# Altium footprint library MB525.PcbLib: 47 footprints (part 1 of 3)
Each footprint in its own frame and in the unit in brackets; x right, y up, seen from the top. Pads: shape width x height; smd on the part's side, far side on the other; paste and mask are expansions set on the pad; w line width, h text height; cw(c..) or ccw(c..) is an arc to the next point about the centre after c.
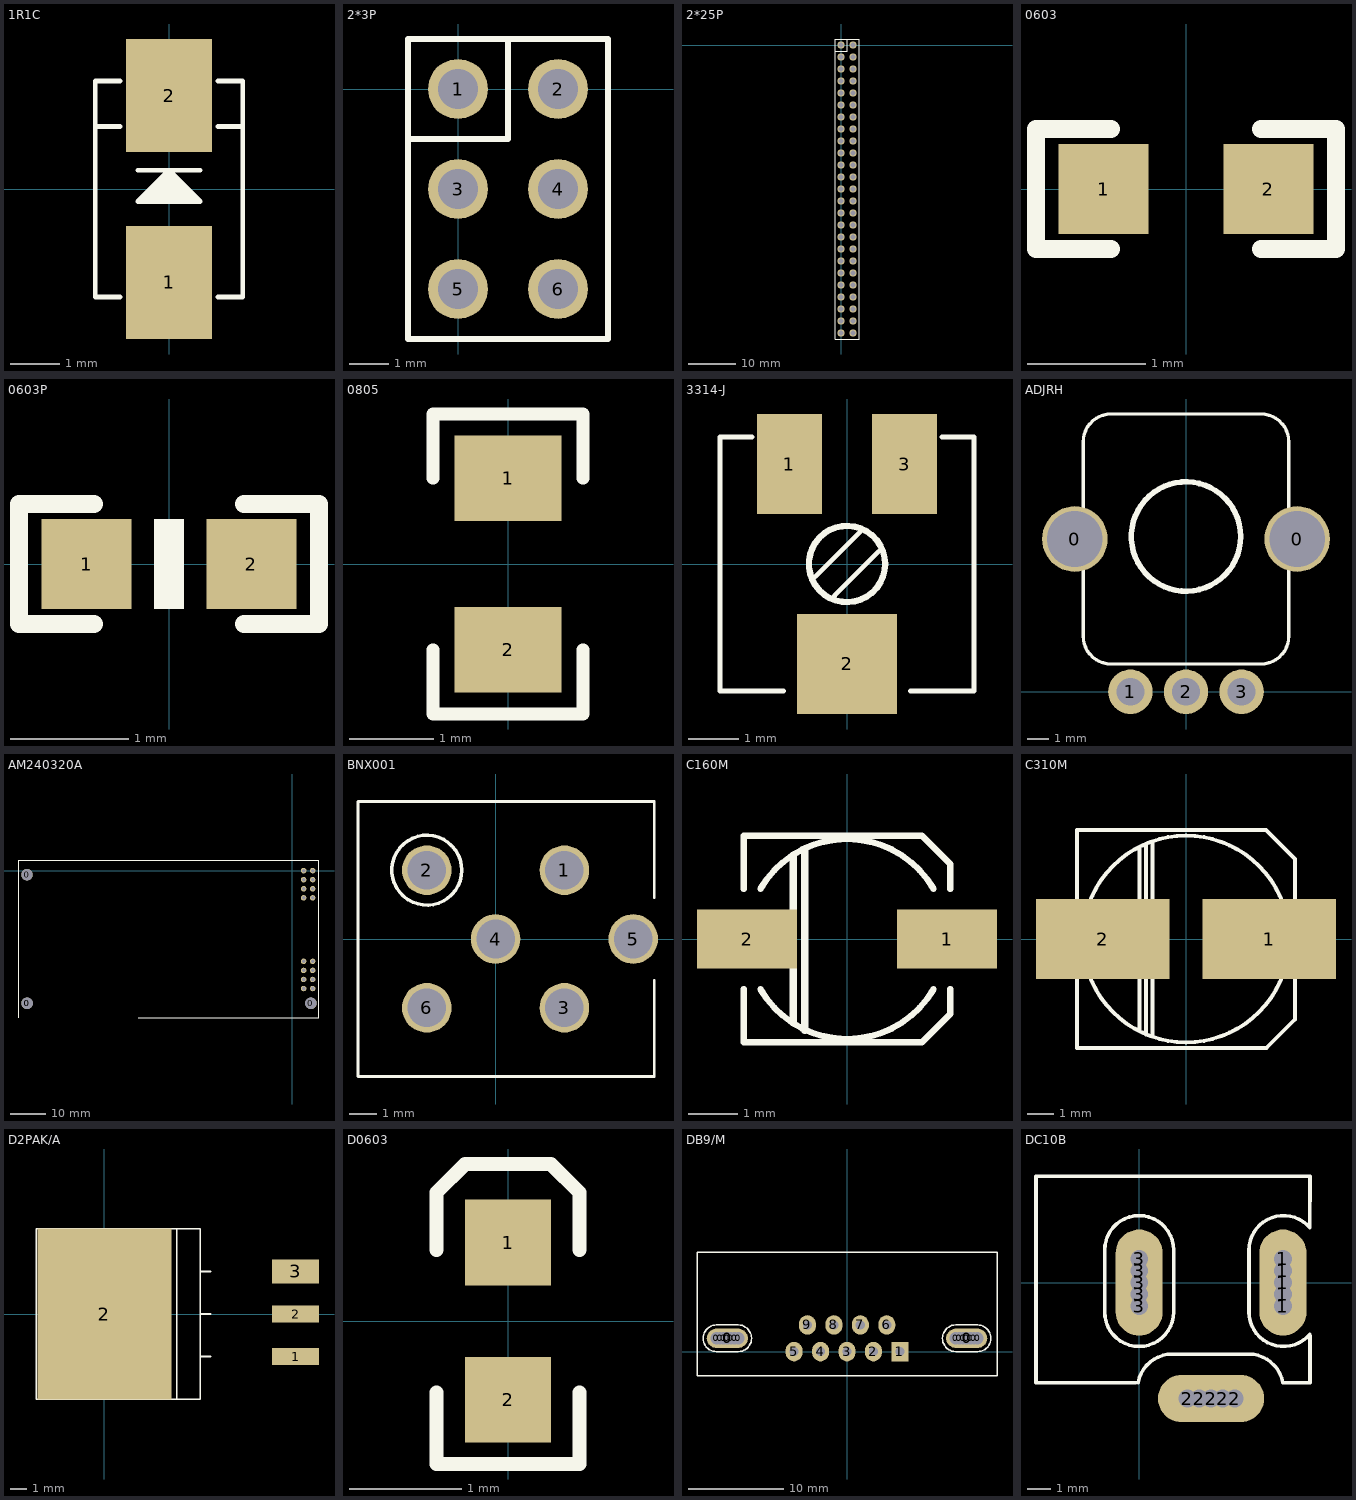
[diagram p0: the footprints below, top view; thin cyan lines are the x and y axes]

## 1R1C [mm]
pads (2):
  rect 1.75x2.3 smd: 1(0,-1.9) 2(0,1.9)
Top Overlay:
  lines w0.1: -1.5,1.27 -1,1.27 ; -1,-2.2 -1.5,-2.2 -1.5,2.2 -1,2.2 ; -0.635,0.381 0.635,0.381 ; -0.564,-0.183 0.477,-0.183 0.477,-0.096 -0.477,-0.096 ; -0.43,-0.049 0.43,-0.049 ; -0.37,0.011 0.37,0.011 ; -0.294,0.087 0.294,0.087 ; -0.213,0.168 0.213,0.168 ; -0.188,0.193 0.188,0.193 ; -0.025,0.087 -0.025,0.381 ; 0.051,-0.071 0.051,0.381 ; 1,-2.2 1.5,-2.2 1.5,2.2 1,2.2 ; 1,1.27 1.5,1.27 ; -0.635,-0.254 0.635,-0.254 0,0.381 -0.635,-0.254

## 2*3P [mil]
pads (6):
  round 60 hole 40: 1(0,0) 2(100,0) 3(0,-100) 4(100,-100) 5(0,-200) 6(100,-200)
Top Overlay:
  lines w6: -50,-50 50,-50 50,50 ; -50,-250 -50,50 150,50 150,-250 -50,-250

## 2*25P [mil]
pads (50):
  round 60 hole 40: 1(0,0) 2(100,0) 3(0,-100) 4(100,-100) 5(0,-200) 6(100,-200) 7(0,-300) 8(100,-300) 9(0,-400) 10(100,-400) 11(0,-500) 12(100,-500) 13(0,-600) 14(100,-600) 15(0,-700) 16(100,-700) 17(0,-800) 18(100,-800) 19(0,-900) 20(100,-900) 21(0,-1000) 22(100,-1000) 23(0,-1100) 24(100,-1100) 25(0,-1200) 26(100,-1200) 27(0,-1300) 28(100,-1300) 29(0,-1400) 30(100,-1400) 31(0,-1500) 32(100,-1500) 33(0,-1600) 34(100,-1600) 35(0,-1700) 36(100,-1700) 37(0,-1800) 38(100,-1800) 39(0,-1900) 40(100,-1900) 41(0,-2000) 42(100,-2000) 43(0,-2100) 44(100,-2100) 45(0,-2200) 46(100,-2200) 47(0,-2300) 48(100,-2300) 49(0,-2400) 50(100,-2400)
Top Overlay:
  lines w6: -50,-50 50,-50 50,50 ; -50,-2450 150,-2450 150,50 -50,50 -50,-2450

## 0603 [mil]
pads (2):
  rect 30x30 smd: 1(-27.5,0) 2(27.5,0)
Top Overlay:
  lines w6: -25,-20 -50,-20 -50,20 -25,20 ; 25,-20 50,-20 50,20 25,20

## 0603P [mil]
pads (2):
  rect 30x30 smd: 1(-27.5,0) 2(27.5,0)
Top Overlay:
  region: 5,-15 5,15 -5,15 -5,-15
  lines w6: -25,-20 -50,-20 -50,20 -25,20 ; 25,-20 50,-20 50,20 25,20

## 0805 [mil]
pads (2):
  rect 50x40 smd: 1(0,40) 2(0,-40)
Top Overlay:
  lines w6: -35,-40 -35,-70 35,-70 35,-40 ; -35,40 -35,70 35,70 35,40

## 3314-J [mm]
pads (3):
  rect 1.3x2 smd: 1(-1.15,2) 3(1.15,2)
  rect 2x2 smd: 2(0,-2)
Top Overlay:
  circle w0.127: c0,0 r0.762
  lines w0.1: -1.905,2.54 -2.54,2.54 -2.54,-2.54 -1.27,-2.54 ; -0.635,-0.254 0.254,0.635 ; -0.254,-0.635 0.635,0.254 ; 1.27,-2.54 2.54,-2.54 2.54,2.54 1.905,2.54

## ADJRH [mil]
pads (5):
  round 118.11 hole 100: 0(-200,275) 0(200,275)
  round 80 hole 50: 1(-100,0) 2(0,0) 3(100,0)
Top Overlay:
  circle w10: c0,279.48 r98.43
  lines w6: -185,100 ccw(c-135,100) -135,50 135,50 ccw(c135,100) 185,100 185,450 ccw(c135,450) 135,500 -135,500 ccw(c-135,450) -185,450 -185,100

## AM240320A [mil]
pads (20):
  round 125.98 hole 125.98 unplated: 0(-2924,-1463) 0(-2924,-1463) 0(-2924,-45.28) 0(205.92,-1463)
  round 60 hole 40: 1(124.94,-0.28) 2(224.94,-0.28) 3(124.94,-100.28) 4(224.94,-100.28) 5(124.94,-200.28) 6(224.94,-200.28) 7(124.94,-300.28) 8(224.94,-300.28) 9(124.94,-1000.28) 10(224.94,-1000.28) 11(124.94,-1100.28) 12(224.94,-1100.28) 13(124.94,-1200.28) 14(224.94,-1200.28) 15(124.94,-1300.28) 16(224.94,-1300.28)
Top Overlay:
  lines w5: -3012.58,-1620.28 -3012.58,112 294.5,112 294.5,-1620.28 -1699,-1620.28 ; -2570.06,112 -1598.8,112

## BNX001 [mm]
pads (6):
  round 1.8 hole 1.4: 1(2.5,2.5) 2(-2.5,2.5) 3(2.5,-2.5) 4(0,0) 5(5,0) 6(-2.5,-2.5)
Top Overlay:
  circle w0.127: c-2.5,2.5 r1.27
  lines w0.1: 5.762,-1.5 5.762,-5 -5,-5 -5,2.5 -5,5 5.762,5 5.762,1.5

## C160M [mil]
pads (2):
  rect 80x47.24 smd: 1(80,0) 2(-80,0)
Top Overlay:
  lines w5: -82.68,-40 -82.68,-82.68 60,-82.68 ; -82.68,40 -82.68,82.68 60,82.68 ; -69.28,-40 ccw(c0,0) 69.28,-40 ; -69.28,40 cw(c0,0) 69.28,40 ; 35,-82.68 60,-82.68 ; 48,82.68 60,82.68 ; 51,82.68 59,82.68 ; 82.68,-40 82.68,-60 60,-82.68 ; 82.68,40 82.68,60 60,82.68
  lines w6: -43,-67 -43,67 ; -34,-73 -34,71

## C310M [mil]
pads (2):
  rect 200x120 smd: 1(125,0) 2(-125,0)
Top Overlay:
  lines w6: -163.39,-55.35 -163.39,-163.39 110,-163.39 120.39,-163.39 163.39,-120.39 163.39,-96 ; -163.39,51.3 -163.39,163.39 115,163.39 120,163.39 163.39,120 163.39,50 ; -145.65,-53.01 ccw(c0,0) 145.65,-53.01 ; -145.65,53.01 cw(c0,0) 145.65,53.01 ; -70,-138 -70,137 ; -60,-143 -60,140 ; -50,-145 -50,144 ; 163.39,-115 163.39,-50

## D2PAK/A [mm]
pads (4):
  rect 2.8x1 smd: 1(11.4,-2.54) 2(11.4,0)
  rect 8x10.2 smd: 2(0,0)
  rect 2.8x1.42 smd: 3(11.4,2.54)
Top Overlay:
  lines w0.1: 4.318,-5.08 4.318,5.08 ; 5.715,-2.54 6.35,-2.54 ; 5.715,0 6.35,0 ; 5.715,2.54 6.35,2.54 ; -4.064,-5.08 -4.064,-4.572 -4.064,-2.794 -4.064,2.921 -4.064,4.318 -4.064,5.08 5.715,5.08 5.715,-5.08 -4.064,-5.08

## D0603 [mil]
pads (2):
  rect 30x30 smd: 1(0,27.5) 2(0,-27.5)
Top Overlay:
  lines w5: -25,-25 -25,-50 25,-50 25,-25 ; -25,25 -25,45 -15,55 15,55 25,45 25,25

## DB9/M [mil]
pads (25):
  round 50 hole 50: 0(-538,55) 0(-523,55) 0(-508,55) 0(-493,55) 0(-478,55) 0(-463,55) 0(-448,55) 0(448,55) 0(463,55) 0(478,55) 0(493,55) 0(508,55) 0(523,55) 0(538,55)
  oval 170x80 hole 50: 0(-493,55) 0(493,55)
  rect 70x80 hole 38: 1(218,0)
  oval 70x80 hole 38: 2(109,0) 3(0,0) 4(-109,0) 5(-218,0) 6(164,110) 7(55,110) 8(-54,110) 9(-163,110)
Top Overlay:
  lines w6: -618,-100 618,-100 618,410 -618,410 -618,-100 ; -538,0 cw(c-538,55) -538,110 -448,110 cw(c-448,55) -448,0 -538,0 ; 448,0 cw(c448,55) 448,110 538,110 cw(c538,55) 538,0 448,0

## DC10B [mil]
pads (15):
  round 45 hole 30: 1(244.09,-40) 1(244.09,-20) 1(244.09,20) 1(244.09,40) 2(82.05,-196.85) 2(102.05,-196.85) 2(142.05,-196.85) 2(162.05,-196.85) 3(0,-40) 3(0,-20) 3(0,20) 3(0,40)
  oval 80x180 hole 30: 1(244.09,0) 3(0,0)
  oval 180x80 hole 30: 2(122.05,-196.85)
Top Overlay:
  lines w6: -6,-170 -175,-170 -175,180 290,180 289.83,92.62 ccw(c245,55) 186.48,55 186.48,-50 ccw(c245,-50) 289.83,-87.62 ; -1.63,-169.84 cw(c56,-180) 56,-121.48 186,-121.48 cw(c186,-180) 243.63,-169.84 ; 245,-170 290,-170 290,-90 ; -58.52,55 cw(c0,55) 58.52,55 ; -58.52,55 -58.52,-50 ccw(c0,-50) 58.52,-50 58.52,55 ; -58.52,55 -58.52,55 ; 58.52,55 58.52,55